# Altium footprint library SmartHalo_Footprints.PcbLib: 114 footprints (part 6 of 8)
Each footprint in its own frame and in the unit in brackets; x right, y up, seen from the top. Pads: shape width x height; smd on the part's side, far side on the other; paste and mask are expansions set on the pad; w line width, h text height; cw(c..) or ccw(c..) is an arc to the next point about the centre after c.
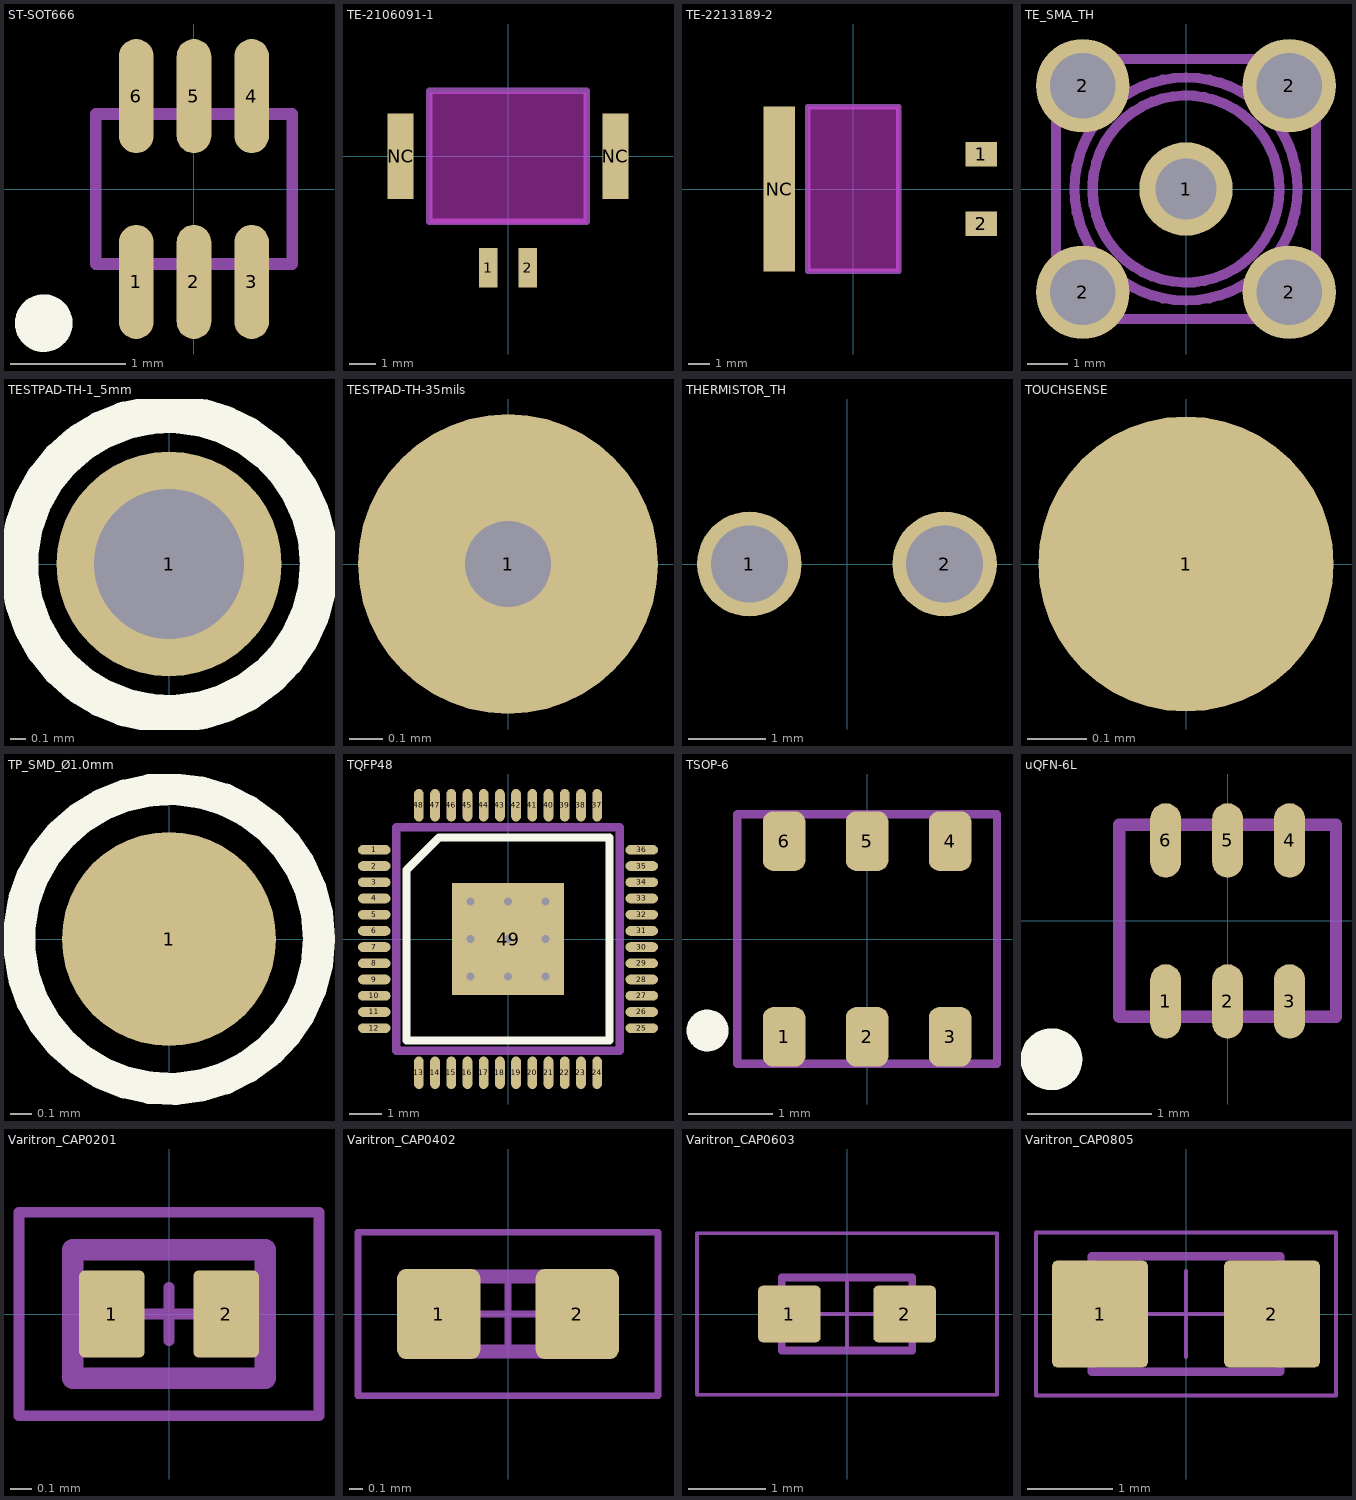
[diagram p5: the footprints below, top view; thin cyan lines are the x and y axes]

## ST-SOT666 [mm] "SOT666, 1.7 x 1.3 x 0.6 mm body, 0.99 x 0.30 pads, 0.5 x 1.115 mm pitch"
height 0.6
pads (6):
  oval 0.3x0.99 smd mask+0: 1(-0.5,-0.805) 2(0,-0.805) 3(0.5,-0.805) 4(0.5,0.805) 5(0,0.805) 6(-0.5,0.805)
Top Overlay:
  circle w0.25: c-1.302,-1.163 r0.125
3D Top:
  lines w0.1: -0.85,-0.65 0.85,-0.65 0.85,0.65 -0.85,0.65 -0.85,-0.65
3D body: height 0.6, standoff 0, extent -0.85,-0.65 0.85,0.65

## TE-2106091-1 [mm] "2 pos Inverted Thru Board SMT Header"
height 3.35
pads (4):
  rect 0.7x1.5 smd: 1(-0.75,-4.25) 2(0.75,-4.25)
  rect 1x3.25 smd: NC(-4.1,0) NC(4.1,0)
Outline:
  lines w0.254: -3,-2.5 3,-2.5 3,2.5 -3,2.5 -3,-2.5
3D Top:
  lines w0.254: -3,-2.5 -3,2.5 3,2.5 3,-2.5 -3,-2.5
Multi-Layer keep-out:
  rectangle: -3,-2.562 3,2.438
3D body: height 3.35, standoff 0, extent 0.5,-4.9 1,-2.35
3D body: height 3.35, standoff 0, extent -1,-4.9 -0.5,-2.35
3D body: height 0.1, standoff 0, extent 3.755,-1.5 4.555,1.5
3D body: height 0.1, standoff 0, extent -4.555,-1.5 -3.755,1.5
3D body: height 3.35, standoff 0, extent -2.75,-2.35 2.75,2.35
3D body: height 1.95, standoff 0, extent -2.75,-2.35 2.75,2.35
3D body: height 0.1, standoff 0, extent 2.755,-1.5 3.755,1.5
3D body: height 0.1, standoff 0, extent -3.755,-1.5 -2.755,1.5

## TE-2213189-2 [mm] "Assembly, IPI Connector 26-24GA w/o cap"
height 7.1
pads (3):
  rect 1.5x1.15 smd: 1(6.05,1.65) 2(6.05,-1.65)
  rect 1.5x7.8 smd: NC(-3.5,0)
Outline:
  lines w0.254: -2.15,-3.9 -2.15,3.9 2.15,3.9 2.15,-3.9 -2.15,-3.9
Multi-Layer keep-out:
  rectangle: -2.15,-3.9 2.15,3.9
3D body: height 1.55, standoff 0, extent -4.1,-3.75 6,3.75
3D body: height 7.1, standoff 0, extent -2,-3.75 2,3.75

## TE_SMA_TH [mm] "CONN SMA JACK STR 50 OHM PCB, 4 x 1.6mm holes, 1.5mm central hole, 5.08mm pitch"
height 7.8
pads (5):
  round 2.3 hole 1.5: 1(0,0)
  round 2.3 hole 1.6: 2(-2.54,-2.54) 2(-2.54,2.54) 2(2.54,-2.54) 2(2.54,2.54)
3D Top:
  circle w0.254: c0,0 r2.3
  circle w0.254: c0,0 r0.65
  circle w0.254: c0,0 r2.745
  lines w0.254: -3.2,-3.2 3.2,-3.2 3.2,3.2 -3.2,3.2 -3.2,-3.2
3D body: height 11.2, standoff 1.7, extent -2.745,-2.744 2.745,2.744
3D body: height 1.7, standoff 0, extent -3.2,-3.2 3.2,3.2

## TESTPAD-TH-1_5mm [mm] "Through-hole testpad, 1.5mm"
pads (1):
  round 1.5 hole 1: 1(0,0)
Top Overlay:
  circle w0.254: c0,0 r1

## TESTPAD-TH-35mils [mil] "Through-hole testpad 35 mils"
pads (1):
  round 35 hole 10: 1(0,0)

## THERMISTOR_TH [mm] "Through hole pads for thermistor"
pads (2):
  round 1.36 hole 1: 1(-1.27,0) 2(1.27,0)

## TOUCHSENSE [mm] "Touch sensor pad, 0.5mm"
pads (1):
  round 0.5 smd: 1(0,0)

## TP_SMD_Ø1.0mm [mm] "Testpad surface mount, 1 mm"
pads (1):
  round 1 smd paste-5: 1(0,0)
Top Overlay:
  circle w0.15: c0,0 r0.7

## TQFP48 [mil] "TQFP48, 7 x 7 x 1.2 mm, 0.5 mm pitch"
height 47.24
pads (49):
  oval 40x12 smd mask+2: 1(-165,110) 2(-165,90) 3(-165,70) 4(-165,50) 5(-165,30) 6(-165,10) 7(-165,-10) 8(-165,-30) 9(-165,-50) 10(-165,-70) 11(-165,-90) 12(-165,-110) 25(165,-110) 26(165,-90) 27(165,-70) 28(165,-50) 29(165,-30) 30(165,-10) 31(165,10) 32(165,30) 33(165,50) 34(165,70) 35(165,90) 36(165,110)
  oval 12x40 smd mask+2: 13(-110,-165) 14(-90,-165) 15(-70,-165) 16(-50,-165) 17(-30,-165) 18(-10,-165) 19(10,-165) 20(30,-165) 21(50,-165) 22(70,-165) 23(90,-165) 24(110,-165) 37(110,165) 38(90,165) 39(70,165) 40(50,165) 41(30,165) 42(10,165) 43(-10,165) 44(-30,165) 45(-50,165) 46(-70,165) 47(-90,165) 48(-110,165)
  rect 137.8x137.8 smd: 49(0,0)
via -46.06,46.06 diameter 18 hole 10
via -46.06,-46.06 diameter 18 hole 10
via -46.06,0 diameter 18 hole 10
via 0,46.06 diameter 18 hole 10
via 46.06,46.06 diameter 18 hole 10
via 0,0 diameter 18 hole 10
via 46.06,0 diameter 18 hole 10
via 0,-46.06 diameter 18 hole 10
via 46.06,-46.06 diameter 18 hole 10
Top Overlay:
  lines w10: -125,-125 -125,85 -85,125 125,125 125,-125 -125,-125
3D Top:
  lines w10: -137.8,-137.8 -137.8,137.8 137.8,137.8 137.8,-137.8 -137.8,-137.8
3D body: height 47.24, standoff 0, extent -137.8,-137.8 137.8,137.8

## TSOP-6 [mil] "TSOP 6 leads, 3.05 x 1.65 x 1.1 mm body, 6 pads, 0.508 x 0.699 mm pads. 1.001 x 2.325 mm pitch"
height 43.31
pads (6):
  rrect50% 20x28 smd: 1(-39,-46) 2(0,-46) 3(39,-46) 4(39,46) 5(0,46) 6(-39,46)
Top Overlay:
  circle w9.84: c-75,-43 r4.92
3D Top:
  lines w3.94: -61.02,-58.66 61.02,-58.66 61.02,58.66 -61.02,58.66 -61.02,-58.66
3D body: height 43.31, standoff 0, extent -61.02,-58.66 61.02,58.66

## uQFN-6L [mm] "Micro QFN, 6 pins, 1.55 x 1.75 x 0.55 mm body, 0.25 x 0.6 mm pads, 0.5 x 1.3 mm pitch"
height 0.55
pads (6):
  oval 0.25x0.6 smd mask+0.051: 1(-0.5,-0.65) 2(0,-0.65) 3(0.5,-0.65) 4(0.5,0.65) 5(0,0.65) 6(-0.5,0.65)
Top Overlay:
  circle w0.25: c-1.422,-1.118 r0.125
3D Top:
  lines w0.1: -0.875,-0.775 -0.875,0.775 0.875,0.775 0.875,-0.775 -0.875,-0.775
3D body: height 0.55, standoff 0.05, extent -0.875,-0.775 0.875,0.775

## Varitron_CAP0201 [mil] "Capacitor 0201(0603), max 1mm height"
height 39.37
pads (2):
  rrect17% 12x16 smd mask+2: 1(-10.5,0) 2(10.5,0)
3D Top:
  lines w3.94: -17.72,-11.81 -17.72,11.81 17.72,11.81 17.71,-11.82 -17.72,-11.81
Courtyard Top:
  lines w1.97: -4.92,0 4.92,0 ; 0,-4.92 0,4.92 ; -27.56,-18.7 -27.56,18.7 27.56,18.7 27.56,-18.7 -27.56,-18.7
3D body: height 39.37, standoff 0, extent -9.84,-11.81 9.84,11.81
3D body: height 39.37, standoff 0, extent -17.72,-11.81 -9.84,11.81
3D body: height 39.37, standoff 0, extent 9.84,-11.81 17.72,11.81

## Varitron_CAP0402 [mil] "Capacitor 0402(1005), max 1mm height"
height 39.37
pads (2):
  rrect21% 24x26 smd: 1(-20,0) 2(20,0)
3D Top:
  lines w3.94: -20.67,-10.83 20.67,-10.83 20.67,10.83 -20.67,10.83 -20.67,-10.83
Courtyard Top:
  lines w1.97: -10.83,0 10.83,0 ; 0,-10.83 0,10.83 ; -43.31,-23.62 -43.31,23.62 43.31,23.62 43.31,-23.62 -43.31,-23.62
3D body: height 39.37, standoff 0, extent -11.81,-10.83 11.81,10.83
3D body: height 39.37, standoff 0, extent -20.67,-10.83 -11.81,10.83
3D body: height 39.37, standoff 0, extent 11.81,-10.83 20.67,10.83

## Varitron_CAP0603 [mil] "Capacitor 0603(1608), max 1mm height"
height 39.37
pads (2):
  rrect17% 32x29 smd: 1(-29.5,0) 2(29.5,0)
3D Top:
  lines w3.94: -33.46,-18.7 -33.46,18.7 33.46,18.7 33.46,-18.7 -33.46,-18.7
Courtyard Top:
  lines w1.97: -18.7,0 18.7,0 ; 0,-18.7 0,18.7 ; -76.77,-41.34 76.77,-41.34 76.77,41.34 -76.77,41.34 -76.77,-41.34
3D body: height 39.37, standoff 0, extent 23.62,-18.7 33.46,18.7
3D body: height 39.37, standoff 0, extent -33.46,-18.7 -23.62,18.7
3D body: height 39.37, standoff 0, extent -23.62,-18.7 23.62,18.7

## Varitron_CAP0805 [mil] "Capacitor 0805(2012), max 1mm height"
height 39.37
pads (2):
  rrect11% 44x49 smd: 1(-39.5,0) 2(39.5,0)
3D Top:
  lines w3.94: -43.31,-26.57 43.31,-26.57 43.31,26.57 -43.31,26.57 -43.31,-26.57
Courtyard Top:
  lines w1.97: -19.68,0 19.68,0 ; 0,-19.68 0,19.68 ; -68.9,-37.4 68.9,-37.4 68.9,37.4 -68.9,37.4 -68.9,-37.4
3D body: height 39.37, standoff 0, extent 26.58,-26.57 43.31,26.58
3D body: height 39.37, standoff 0, extent -43.31,-26.57 -26.57,26.57
3D body: height 39.37, standoff 0, extent -26.57,-26.57 26.58,26.58